# Altium schematic symbol library RY611024.SchLib: 1 symbol
Pins are listed as number, name and electrical type; pins without a type are passive.

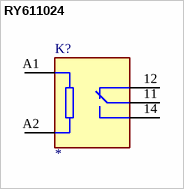
[diagram p0: symbol RY611024]

## RY611024
designator K?
Electromechanical Relay 24VDC, 8A/250VAC SPDT; MP: 1-1415899-1; Package: None; Price: None; Value: *; Availability: Unavailable
footprint RY611024
pins: 11, 12, 14, A1, A2